# Altium schematic symbol library LQ-TC264-SYSVB.SCHLIB: 15 symbols
Pins are listed as number, name and electrical type; pins without a type are passive.

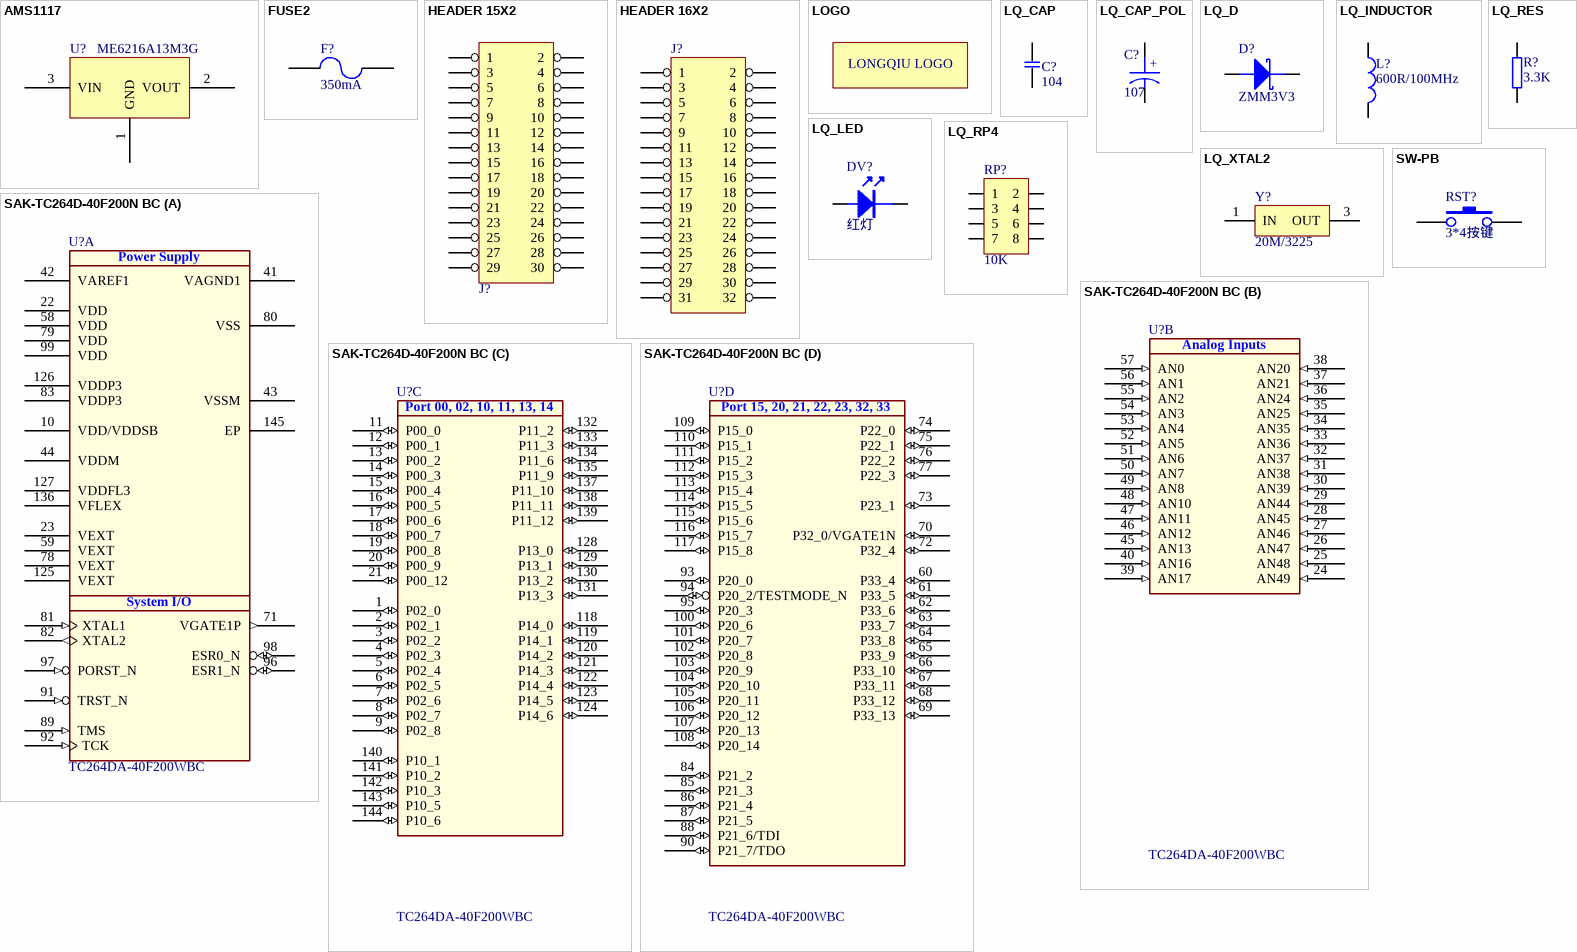
[diagram p0: symbols AMS1117 to SW-PB]

## AMS1117
designator U?, comment ME6216A13M3G
footprint LQ_SOT-23NPN
pins: 1 GND (power), 2 VOUT (power), 3 VIN (power)

## FUSE2
designator F?, comment 350mA
Fuse
footprint LQ_1206
pins: 1, 2

## HEADER 15X2
designator J?  (value not drawn)
footprint LQ_IDC15X2M
pins: 1, 2, 3, 4, 5, 6, 7, 8, 9, 10, 11, 12, 13, 14, 15, 16, 17, 18, 19, 20, 21, 22, 23, 24, 25, 26, 27, 28, 29, 30

## HEADER 16X2
designator J?  (value not drawn)
footprint LQ_IDC16X2M
pins: 1, 2, 3, 4, 5, 6, 7, 8, 9, 10, 11, 12, 13, 14, 15, 16, 17, 18, 19, 20, 21, 22, 23, 24, 25, 26, 27, 28, 29, 30, 31, 32

## LOGO
designator LOGO?  (value not drawn)
footprint LOGO5X8MM
footprint LOGO5X8MM-N
text: LONGQIU LOGO

## LQ_CAP
designator C?, comment 104
CAP
footprint LQ_0805
footprint LQ_C0603 (Footprint not found)
footprint LQ_1206
footprint LQ_1210
pins: 1, 2

## LQ_CAP_POL
designator C?, comment 107
10u
footprint LQ_10U10V
footprint LQ_C1210T
pins: 1, 2
text: +

## LQ_D
designator D?, comment ZMM3V3
Schottky Diode
footprint LQ_1206
footprint LQ_1812
footprint LQ_1206D
pins: 1, 2 1

## LQ_INDUCTOR
designator L?, comment 600R/100MHz
100uH
footprint LQ_0603
pins: 1, 2

## LQ_LED
designator DV?, comment 红灯
footprint LQ_0805
footprint LQ_0603D
pins: 1, 2

## LQ_RES
designator R?, comment 3.3K
RES
footprint LQ_0805
footprint LQ_R0603
pins: 1, 2

## LQ_RP4
designator RP?, comment 10K
footprint LQ_0603_4
pins: 1, 2, 3, 4, 5, 6, 7, 8

## LQ_XTAL2
designator Y?, comment 20M/3225
footprint LQ_XTAL5X3.2
footprint LQ_XTAL5X3.2-2P
footprint LQ_XTAL3225
pins: 1 IN, 3 OUT

## SAK-TC264D-40F200N BC
designator U?, comment TC264DA-40F200WBC
32-Bit Single-Chip Microcontroller BC-Step; ManufacturerPartNumber: SAK-TC264D-40F200N BC; Manufacturer: Infineon Technologies; PackageReference: PG-LQFP-144-22
footprint LQ_QFP50P2200X2200X160-145N (QFP,0.50mm pitch,square;144 pin,20.00mm L X 20.00mm W X 1.60mm H body (w/thermal tab))
part A pins: 10 VDD/VDDSB (power) "Emulation Device: Emulation SRAM Standby Power Supply (1.3V)", 22 VDD (power) "Digital Core Power Supply (1.3V)", 23 VEXT (power) "External Supply (5V / 3.3V)", 41 VAGND1 (power) "Negative Analog Reference Voltage 1", 42 VAREF1 (power) "Positive Analog Reference Voltage 1", 43 VSSM (power) "Analog Ground for VDDM", 44 VDDM (power) "ADC Analog Power Supply (3.3V / 5V)", 58 VDD (power) "Digital Core Power Supply (1.3V)", 59 VEXT (power) "External Supply (5V / 3.3V)", 71 VGATE1P (out) "External Pass Device gate control for EVR13", 78 VEXT (power) "External Supply (5V / 3.3V)", 79 VDD (power) "Digital Core Power Supply (1.3V)", 80 VSS (power) "Digital Ground", 81 XTAL1 (in) "Main Oscillator/PLL/Clock Generator Input", 82 XTAL2 (out) "Main Oscillator/PLL/Clock Generator Output", 83 VDDP3 (power) "Digital Power Supply for Oscillator, LVDSH and A2 pads (3.3V)", 89 TMS (in) "JTAG Module State Machine Control Input", 91 TRST_N (in) "JTAG Module Reset/Enable Input", 92 TCK (in) "JTAG Module Clock Input", 96 ESR1_N (io) "External System Request Reset 1", 97 PORST_N (in) "Power On Reset Input", 98 ESR0_N (io) "External System Request Reset 0", 99 VDD (power) "Digital Core Power Supply (1.3V)", 125 VEXT (power) "External Supply (5V / 3.3V)", 126 VDDP3 (power) "Digital Power Supply for Flash (3.3V)", 127 VDDFL3 (power) "Flash Power Supply (3.3V)", 136 VFLEX (power) "Digital Power Supply for Flex Port Pads (5V / 3.3V)", 145 EP (power) "Exposed Pad"
part B pins: 24 AN49 (in) "Analog input 49", 25 AN48 (in) "Analog input 48", 26 AN47 (in) "Analog input 47", 27 AN46 (in) "Analog input 46", 28 AN45 (in) "Analog input 45", 29 AN44 (in) "Analog input 44", 30 AN39 (in) "Analog input 39", 31 AN38 (in) "Analog input 38", 32 AN37 (in) "Analog input 37", 33 AN36 (in) "Analog input 36", 34 AN35 (in) "Analog input 35", 35 AN25 (in) "Analog input 25", 36 AN24 (in) "Analog input 24", 37 AN21 (in) "Analog input 21", 38 AN20 (in) "Analog input 20", 39 AN17 (in) "Analog input 17", 40 AN16 (in) "Analog input 16", 45 AN13 (in) "Analog input 13", 46 AN12 (in) "Analog input 12", 47 AN11 (in) "Analog input 11", 48 AN10 (in) "Analog input 10", 49 AN8 (in) "Analog input 8", 50 AN7 (in) "Analog input 7", 51 AN6 (in) "Analog input 6", 52 AN5 (in) "Analog input 5", 53 AN4 (in) "Analog input 4", 54 AN3 (in) "Analog input 3", 55 AN2 (in) "Analog input 2", 56 AN1 (in) "Analog input 1", 57 AN0 (in) "Analog input 0"
part C pins: 1 P02_0 (io) "General-purpose Input/Output", 2 P02_1 (io) "General-purpose Input/Output", 3 P02_2 (io) "General-purpose Input/Output", 4 P02_3 (io) "General-purpose Input/Output", 5 P02_4 (io) "General-purpose Input/Output", 6 P02_5 (io) "General-purpose Input/Output", 7 P02_6 (io) "General-purpose Input/Output", 8 P02_7 (io) "General-purpose Input/Output", 9 P02_8 (io) "General-purpose Input/Output", 11 P00_0 (io) "General-purpose Input/Output", 12 P00_1 (io) "General-purpose Input/Output", 13 P00_2 (io) "General-purpose Input/Output", 14 P00_3 (io) "General-purpose Input/Output", 15 P00_4 (io) "General-purpose Input/Output", 16 P00_5 (io) "General-purpose Input/Output", 17 P00_6 (io) "General-purpose Input/Output", 18 P00_7 (io) "General-purpose Input/Output", 19 P00_8 (io) "General-purpose Input/Output", 20 P00_9 (io) "General-purpose Input/Output", 21 P00_12 (io) "General-purpose Input/Output", 118 P14_0 (io) "General-purpose Input/Output", 119 P14_1 (io) "General-purpose Input/Output", 120 P14_2 (io) "General-purpose Input/Output", 121 P14_3 (io) "General-purpose Input/Output", 122 P14_4 (io) "General-purpose Input/Output", 123 P14_5 (io) "General-purpose Input/Output", 124 P14_6 (io) "General-purpose Input/Output", 128 P13_0 (io) "General-purpose Input/Output", 129 P13_1 (io) "General-purpose Input/Output", 130 P13_2 (io) "General-purpose Input/Output", 131 P13_3 (io) "General-purpose Input/Output", 132 P11_2 (io) "General-purpose Input/Output", 133 P11_3 (io) "General-purpose Input/Output", 134 P11_6 (io) "General-purpose Input/Output", 135 P11_9 (io) "General-purpose Input/Output", 137 P11_10 (io) "General-purpose Input/Output", 138 P11_11 (io) "General-purpose Input/Output", 139 P11_12 (io) "General-purpose Input/Output", 140 P10_1 (io) "General-purpose Input/Output", 141 P10_2 (io) "General-purpose Input/Output", 142 P10_3 (io) "General-purpose Input/Output", 143 P10_5 (io) "General-purpose Input/Output", 144 P10_6 (io) "General-purpose input/output"
part D pins: 60 P33_4 (io) "General-purpose Input/Output", 61 P33_5 (io) "General-purpose Input/Output", 62 P33_6 (io) "General-purpose Input/Output", 63 P33_7 (io) "General-purpose Input/Output", 64 P33_8 (io) "General-purpose Input/Output", 65 P33_9 (io) "General-purpose Input/Output", 66 P33_10 (io) "General-purpose Input/Output", 67 P33_11 (io) "General-purpose Input/Output", 68 P33_12 (io) "General-purpose Input/Output", 69 P33_13 (io) "General-purpose Input/Output", 70 P32_0/VGATE1N (io) "General-purpose Input/Output/SMPS mode: Analog Output", 72 P32_4 (io) "General-purpose Input/Output", 73 P23_1 (io) "General-purpose Input/Output", 74 P22_0 (io) "General-purpose Input/Output", 75 P22_1 (io) "General-purpose Input/Output", 76 P22_2 (io) "General-purpose Input/Output", 77 P22_3 (io) "General-purpose Input/Output", 84 P21_2 (io) "General-purpose Input/Output", 85 P21_3 (io) "General-purpose Input/Output", 86 P21_4 (io) "General-purpose Input/Output", 87 P21_5 (io) "General-purpose Input/Output", 88 P21_6/TDI (io) "General-purpose Input/Output/OCDS (JTAG) Input", 90 P21_7/TDO (io) "General-purpose Input/Output/OCDS (JTAG)", 93 P20_0 (io) "General-purpose Input/Output", 94 P20_2/TESTMODE_N (io) "General-purpose Input/Output/OCDS Input", 95 P20_3 (io) "General-purpose Input/Output", 100 P20_6 (io) "General-purpose Input/Output", 101 P20_7 (io) "General-purpose Input/Output", 102 P20_8 (io) "General-purpose Input/Output", 103 P20_9 (io) "General-purpose Input/Output", 104 P20_10 (io) "General-purpose Input/Output", 105 P20_11 (io) "General-purpose Input/Output", 106 P20_12 (io) "General-purpose Input/Output", 107 P20_13 (io) "General-purpose Input/Output", 108 P20_14 (io) "General-purpose Input/Output", 109 P15_0 (io) "General-purpose Input/Output", 110 P15_1 (io) "General-purpose Input/Output", 111 P15_2 (io) "General-purpose Input/Output", 112 P15_3 (io) "General-purpose Input/Output", 113 P15_4 (io) "General-purpose Input/Output", 114 P15_5 (io) "General-purpose Input/Output", 115 P15_6 (io) "General-purpose Input/Output", 116 P15_7 (io) "General-purpose Input/Output", 117 P15_8 (io) "General-purpose Input/Output"
part A text: Power Supply; System I/O
part B text: Analog Inputs
part C text: Port 00, 02, 10, 11, 13, 14
part D text: Port 15, 20, 21, 22, 23, 32, 33

## SW-PB
designator RST?, comment 3*4按键
footprint LQ_BT2SMT3X4
pins: 1, 2